# Altium footprint library 数字GRB转差分VGA接口板 1.PcbLib: 13 footprints
Each footprint in its own frame and in the unit in brackets; x right, y up, seen from the top. Pads: shape width x height; smd on the part's side, far side on the other; paste and mask are expansions set on the pad; w line width, h text height; cw(c..) or ccw(c..) is an arc to the next point about the centre after c.
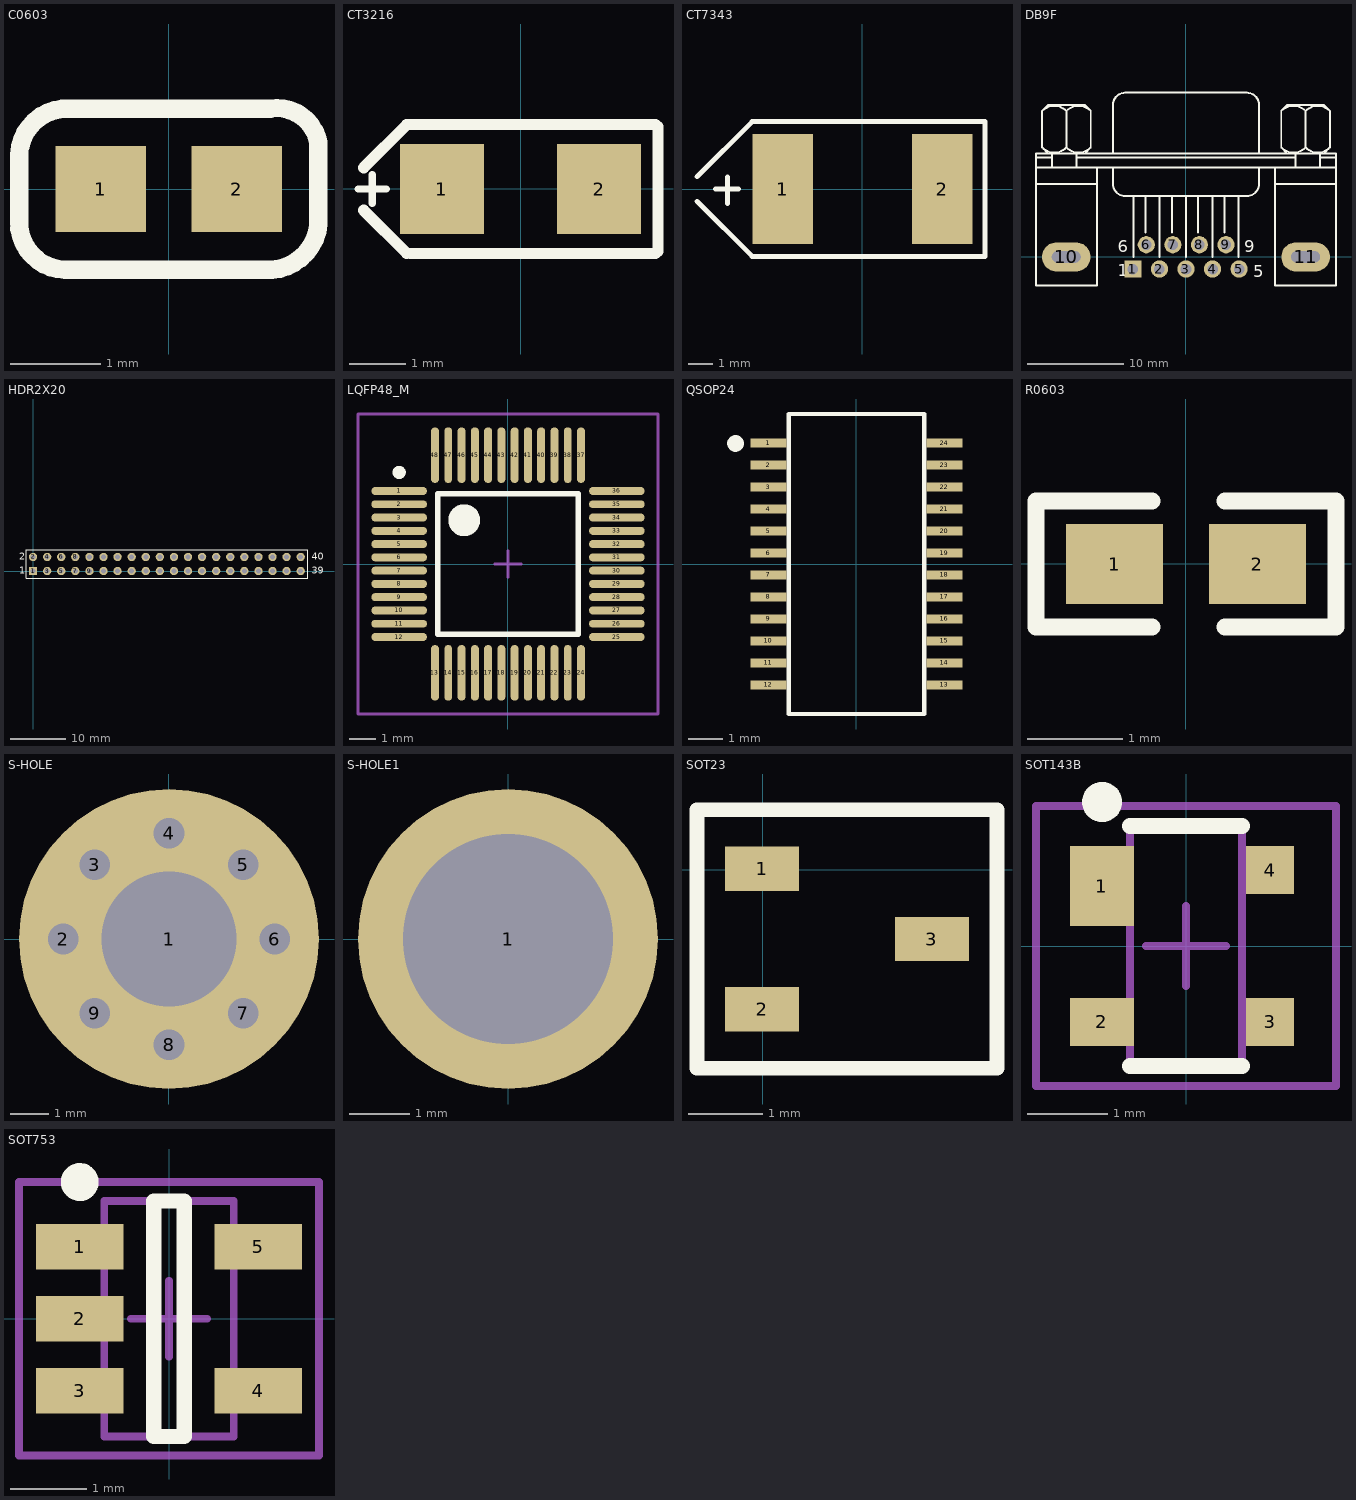
[diagram p0: the footprints below, top view; thin cyan lines are the x and y axes]

## C0603 [mm] "Capacitor,non-polarized,Chip;1.60mm L X 0.80mm W X 0.90mm H"
height 0.9
pads (2):
  rect 1x0.95 smd: 1(-0.75,0) 2(0.75,0)
Top Overlay:
  lines w0.203: 1.048,-0.889 -1.143,-0.889 cw(c-1.13,-0.368) -1.651,-0.356 -1.651,0.381 cw(c-1.118,0.356) -1.092,0.889 1.118,0.889 cw(c1.192,0.43) 1.651,0.504 1.651,-0.381 cw(c1.096,-0.334) 1.048,-0.889
3D body: height 0.9, standoff 0, extent -0.978,-0.508 0.978,0.508

## CT3216 [mm] "A型钽电容（AVX）"
height 1.1
pads (2):
  rect 1.5x1.6 smd: 1(-1.4,0) 2(1.4,0)
Top Overlay:
  lines w0.127: -2.896,0 -2.388,0 ; -2.642,-0.254 -2.642,0.254 ; -2.025,-1.15 -1.956,-1.15 ; -2.025,1.15 -2.007,1.15 ; 2.406,-1.15 2.45,-1.106 ; 2.406,1.15 2.45,1.106
  lines w0.203: -2.794,-0.381 -2.025,-1.15 ; -2.794,0.381 -2.025,1.15 ; -2.007,1.15 1.956,1.15 2.406,1.15 ; -1.956,-1.15 2.108,-1.15 2.406,-1.15 ; 2.45,-1.106 2.45,-0.635 2.45,0.711 2.45,1.106
3D body: height 1.8, standoff 0, extent -1.372,-0.737 1.372,0.737

## CT7343 [mm] "Capacitor,polarized,Chip;7.30mm L X 4.35mm W X 3.10mm H"
height 3.1
pads (2):
  rect 2.5x4.55 smd: 1(-3.3,0) 2(3.3,0)
Top Overlay:
  lines w0.203: -6.858,-0.508 -4.572,-2.794 -4.35,-2.794 5.08,-2.794 5.08,2.794 -4.35,2.794 -4.572,2.794 -6.858,0.508 ; -6.096,0 -5.131,0 ; -5.588,-0.61 -5.588,0.508
3D body: height 3.1, standoff 0, extent -3.683,-2.197 3.683,2.222

## DB9F [mm] "Connector; D Subminiature; 9 Position; Right Angle; Pitch 1.385 mm"
height 1.27
pads (11):
  rect 1.8x1.8 hole 1.1: 1(-5.535,-1.27)
  round 1.8 hole 1.1: 2(-2.762,-1.27) 3(0.011,-1.27) 4(2.783,-1.27) 5(5.556,-1.27) 6(-4.138,1.27) 7(-1.365,1.27) 8(1.408,1.27) 9(4.18,1.27)
  oval 5.08x3.048 hole 1.2 slot 3 at 0 deg: 10(-12.499,0) 11(12.499,0)
Top Overlay:
  lines w0.203: -15.653,-2.963 -9.303,-2.963 ; -15.653,-2.942 -15.653,10.795 15.674,10.795 15.674,-2.942 ; -15.653,7.62 -9.303,7.62 ; -15.653,9.313 15.674,9.313 ; -15.653,10.372 -13.959,10.372 ; -15.02,11.428 ccw(c-13.748,12.7) -12.475,11.428 ; -15.02,15.242 cw(c-13.748,13.97) -12.475,15.242 ; -14.383,10.795 -15.018,11.43 -15.018,15.24 -14.383,15.875 -10.573,15.875 -9.938,15.24 -9.938,11.43 -10.573,10.795 ; -13.959,9.313 -13.959,10.795 ; -12.48,11.428 ccw(c-11.208,12.7) -9.935,11.428 ; -12.48,15.242 cw(c-11.208,13.97) -9.935,15.242 ; -12.478,11.43 -12.478,15.24 ; -11.419,9.313 -11.419,10.795 ; -11.419,10.372 11.441,10.372 ; -9.303,-2.942 -9.303,9.313 ; -7.609,9.313 -7.609,7.62 ccw(c-6.339,7.62) -6.339,6.35 6.361,6.35 ccw(c6.361,7.62) 7.631,7.62 7.631,9.313 ; -7.609,10.795 -7.609,15.875 cw(c-6.339,15.875) -6.339,17.145 6.361,17.145 cw(c6.361,15.875) 7.631,15.875 7.631,10.795 ; -5.493,0 -5.493,6.35 ; -4.223,2.54 -4.223,6.35 ; -2.741,0 -2.741,6.35 ; -1.471,2.54 -1.471,6.35 ; 0.011,0 0.011,6.35 ; 1.281,2.54 1.281,6.35 ; 2.762,0 2.762,6.35 ; 4.032,2.54 4.032,6.35 ; 5.514,0 5.514,6.35 ; 9.324,-2.963 15.674,-2.963 ; 9.324,-2.942 9.324,9.313 ; 9.324,7.62 15.674,7.62 ; 9.957,11.428 ccw(c11.229,12.7) 12.501,11.428 ; 9.957,15.242 cw(c11.229,13.97) 12.501,15.242 ; 10.594,10.795 9.959,11.43 9.959,15.24 10.594,15.875 14.404,15.875 15.039,15.24 15.039,11.43 14.404,10.795 ; 11.441,9.313 11.441,10.795 ; 12.497,11.428 ccw(c13.769,12.7) 15.041,11.428 ; 12.497,15.242 cw(c13.769,13.97) 15.041,15.242 ; 12.499,11.43 12.499,15.24 ; 13.981,9.313 13.981,10.795 ; 13.981,10.372 15.674,10.372
  text "9" at 6.107,0.508 h1.27
  text "5" at 7.036,-2.108 h1.27
  text "1" at -7.101,-2.032 h1.27
  text "6" at -7.101,0.508 h1.27
3D body "0966_s_standard_fem_ang_9_pins_.stp": height 12.8, standoff -4, extent -15.575,-3.226 15.625,17.974

## HDR2X20 [mm] "Connector; Header; 20x2 Position"
pads (40):
  rect 1.5x1.5 hole 0.9: 1(0,0)
  round 1.5 hole 0.9: 2(0,2.54) 3(2.54,0) 4(2.54,2.54) 5(5.08,0) 6(5.08,2.54) 7(7.62,0) 8(7.62,2.54) 9(10.16,0) 10(10.16,2.54) 11(12.7,0) 12(12.7,2.54) 13(15.24,0) 14(15.24,2.54) 15(17.78,0) 16(17.78,2.54) 17(20.32,0) 18(20.32,2.54) 19(22.86,0) 20(22.86,2.54) 21(25.4,0) 22(25.4,2.54) 23(27.94,0) 24(27.94,2.54) 25(30.48,0) 26(30.48,2.54) 27(33.02,0) 28(33.02,2.54) 29(35.56,0) 30(35.56,2.54) 31(38.1,0) 32(38.1,2.54) 33(40.64,0) 34(40.64,2.54) 35(43.18,0) 36(43.18,2.54) 37(45.72,0) 38(45.72,2.54) 39(48.26,0) 40(48.26,2.54)
Top Overlay:
  lines w0.2: -1.27,-1.27 49.53,-1.27 49.53,3.81 -1.27,3.81 -1.27,-1.27
  text "1" at -2.54,-0.508 h1.27
  text "2" at -2.54,2.032 h1.27
  text "40" at 50.292,2.032 h1.27
  text "39" at 50.292,-0.508 h1.27

## LQFP48_M [mm]
pads (48):
  oval 2.1x0.3 smd: 1(-4.1,2.75) 2(-4.1,2.25) 3(-4.1,1.75) 4(-4.1,1.25) 5(-4.1,0.75) 6(-4.1,0.25) 7(-4.1,-0.25) 8(-4.1,-0.75) 9(-4.1,-1.25) 10(-4.1,-1.75) 11(-4.1,-2.25) 12(-4.1,-2.75) 25(4.1,-2.75) 26(4.1,-2.25) 27(4.1,-1.75) 28(4.1,-1.25) 29(4.1,-0.75) 30(4.1,-0.25) 31(4.1,0.25) 32(4.1,0.75) 33(4.1,1.25) 34(4.1,1.75) 35(4.1,2.25) 36(4.1,2.75)
  oval 0.3x2.1 smd: 13(-2.75,-4.1) 14(-2.25,-4.1) 15(-1.75,-4.1) 16(-1.25,-4.1) 17(-0.75,-4.1) 18(-0.25,-4.1) 19(0.25,-4.1) 20(0.75,-4.1) 21(1.25,-4.1) 22(1.75,-4.1) 23(2.25,-4.1) 24(2.75,-4.1) 37(2.75,4.1) 38(2.25,4.1) 39(1.75,4.1) 40(1.25,4.1) 41(0.75,4.1) 42(0.25,4.1) 43(-0.25,4.1) 44(-0.75,4.1) 45(-1.25,4.1) 46(-1.75,4.1) 47(-2.25,4.1) 48(-2.75,4.1)
Top Overlay:
  circle w0.6: c-1.65,1.65 r0.3
  circle w0.25: c-4.1,3.45 r0.125
  lines w0.2: -2.65,-2.65 2.65,-2.65 2.65,2.65 -2.65,2.65 -2.65,-2.65
Mechanical 15:
  lines w0.1: -0.5,0 0.5,0 ; 0,-0.5 0,0.5 ; -5.65,-5.65 5.65,-5.65 5.65,5.65 -5.65,5.65 -5.65,-5.65

## QSOP24 [mil]
pads (24):
  rect 41x10 smd: 1(-100,137.5) 2(-100,112.5) 3(-100,87.5) 4(-100,62.5) 5(-100,37.5) 6(-100,12.5) 7(-100,-12.5) 8(-100,-37.5) 9(-100,-62.5) 10(-100,-87.5) 11(-100,-112.5) 12(-100,-137.5) 13(100,-137.5) 14(100,-112.5) 15(100,-87.5) 16(100,-62.5) 17(100,-37.5) 18(100,-12.5) 19(100,12.5) 20(100,37.5) 21(100,62.5) 22(100,87.5) 23(100,112.5) 24(100,137.5)
Top Overlay:
  circle w10: c-137.47,137 r4.47
  lines w5: -77,-170.5 -77,170.5 77,170.5 77,-170.5 -77,-170.5

## R0603 [mil] "表贴电阻"
height 38
pads (2):
  rect 40x33 smd: 1(-29.53,0) 2(29.53,0)
Top Overlay:
  lines w7: -62,-26 -13.98,-26 ; -62,-24.86 -62,25.14 ; -62,26 -13.98,26 ; 16.02,-26 62,-26 62,26 16.02,26
3D body: height 21.65, standoff 0, extent -37.5,-16 37.5,16

## S-HOLE [mm]
height 7
pads (9):
  round 7.8 hole 3.5: 1(0,0)
  round 1.6 hole 0.8: 2(-2.75,0) 3(-1.93,1.93) 4(0,2.75) 5(1.93,1.93) 6(2.75,0) 7(1.93,-1.93) 8(0,-2.75) 9(-1.93,-1.93)
3D body: height 3, standoff 0, extent -1.607,-1.607 1.607,1.607

## S-HOLE1 [mm]
pads (1):
  round 5 hole 3.5: 1(0,0)

## SOT23 [mm] "NXP,MBT3904，CMBT3904,NPN表贴三极管"
height 1.1
pads (3):
  rect 1x0.6 smd: 1(-0.007,0.01) 2(-0.007,-1.89) 3(2.293,-0.94)
Top Overlay:
  lines w0.2: -0.889,-2.69 3.175,-2.69 3.175,0.81 -0.889,0.81 -0.889,-2.69
3D body: height 1, standoff 0, extent 0.508,-2.54 1.778,0.635

## SOT143B [mm] "SOT143, 4-Leads, Body 3.0x2.5mm (max), Pitch 1.90mm, IPC Medium Density"
height 1.1
pads (4):
  rect 0.8x1 smd: 1(-1.05,0.75)
  rect 0.8x0.6 smd: 2(-1.05,-0.95)
  rect 0.6x0.6 smd: 3(1.05,-0.95) 4(1.05,0.95)
Top Overlay:
  circle w0.25: c-1.05,1.8 r0.125
  lines w0.2: -0.7,-1.5 0.7,-1.5 ; -0.7,1.5 0.7,1.5
Mechanical 13:
  lines w0.1: -0.7,-1.5 -0.7,1.5 0.7,1.5 0.7,-1.5 -0.7,-1.5
Mechanical 15:
  lines w0.1: -0.5,0 0.5,0 ; 0,-0.5 0,0.5 ; -1.875,-1.75 -1.875,1.75 1.875,1.75 1.875,-1.75 -1.875,-1.75
3D body: height 1.1, standoff 0.15, extent -0.7,-1.5 0.7,1.5

## SOT753 [mm] "SOT23, 5-Leads, Body 3.1x3.0mm (max), Pitch 0.95mm, IPC Medium Density"
height 1.1
pads (5):
  rect 1.15x0.6 smd: 1(-1.175,0.95) 2(-1.175,0) 3(-1.175,-0.95) 4(1.175,-0.95) 5(1.175,0.95)
Top Overlay:
  circle w0.25: c-1.175,1.8 r0.125
  lines w0.2: -0.2,-1.55 -0.2,1.55 0.2,1.55 0.2,-1.55 -0.2,-1.55
Mechanical 13:
  lines w0.1: -0.85,-1.55 0.85,-1.55 0.85,1.55 -0.85,1.55 -0.85,-1.55
Mechanical 15:
  lines w0.1: -0.5,0 0.5,0 ; 0,-0.5 0,0.5 ; -1.975,-1.8 1.975,-1.8 1.975,1.8 -1.975,1.8 -1.975,-1.8
3D body: height 1.1, standoff 0.01, extent -0.85,-1.55 0.85,1.55